# Altium integrated library CAP 0603.IntLib: 27 symbols
Pins are listed as number, name and electrical type; pins without a type are passive.

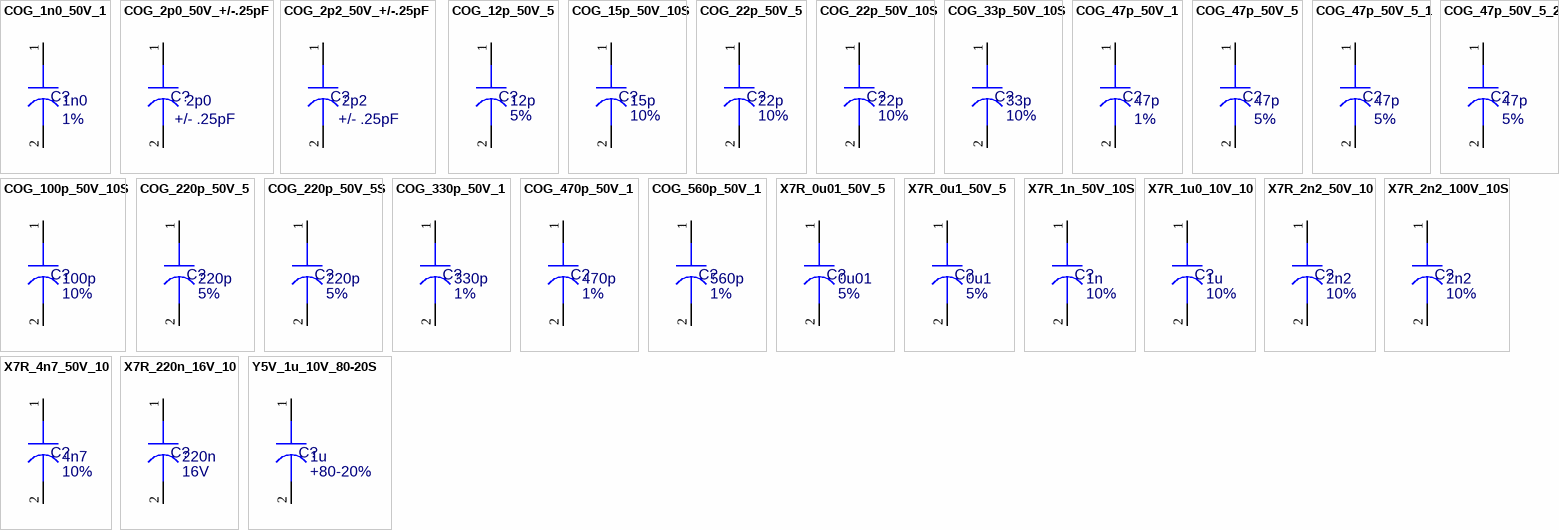
[diagram p0: symbols COG_1n0_50V_1 to Y5V_1u_10V_80-20S]

## COG_1n0_50V_1
designator C?, comment value 1n0  Tolerance: 1%  (hidden comment: 53632-1250)
Capacitor, 1nF 50V; ECAD_Revision: 1; Librarian: US; PartNumber: 53632-1250; HelpURL: *; Item: *; Voltage: 50V
signal-integrity model c0603
simulation model CAP (Capacitor)
footprint C0603
pins: 1, 2

## COG_2p0_50V_+/-.25pF
designator C?, comment value 2p0  Tolerance: +/- .25pF  (hidden comment: 53628-1090)
Capacitor, 2.0pF 50V; ECAD_Revision: 1; Librarian: US; PartNumber: 53628-1090; HelpURL: *; Item: *; Voltage: 50V
signal-integrity model c0603
simulation model CAP (Capacitor)
footprint C0603
pins: 1, 2

## COG_2p2_50V_+/-.25pF
designator C?, comment value 2p2  Tolerance: +/- .25pF  (hidden comment: 53628-1108)
Capacitor, 2.2pF 50V; ECAD_Revision: 1; Librarian: US; PartNumber: 53628-1108; HelpURL: *; Item: *; Voltage: 50V
signal-integrity model c0603
simulation model CAP (Capacitor)
footprint C0603
pins: 1, 2

## COG_12p_50V_5
designator C?, comment value 12p  Tolerance: 5%  (hidden comment: 53629-1024)
Capacitor, 12pF 50V; ECAD_Revision: 1; Librarian: US; PartNumber: 53629-1024; HelpURL: *; Item: *; Voltage: 50V
signal-integrity model c0603
simulation model CAP (Capacitor)
footprint C0603
pins: 1, 2

## COG_15p_50V_10S
designator C?, comment value 15p  Tolerance: 10%  (hidden comment: CXD15P00K050BC)
Capacitor, 15pF 50V; ECAD_Revision: 1; Librarian: UK; PartNumber: CXD15P00K050BC; HelpURL: *; Item: *; Voltage: 50V
signal-integrity model c0603
simulation model CAP (Capacitor)
footprint C0603
pins: 1, 2

## COG_22p_50V_5
designator C?, comment value 22p  Tolerance: 10%  (hidden comment: 53629-1057)
Capacitor, 22pF 50V; ECAD_Revision: 1; Librarian: US; PartNumber: 53629-1057; HelpURL: *; Item: *; Voltage: 50V
signal-integrity model c0603
simulation model CAP (Capacitor)
footprint C0603
pins: 1, 2

## COG_22p_50V_10S
designator C?, comment value 22p  Tolerance: 10%  (hidden comment: CXD22P00K050BC)
Capacitor, 22pF 50V; ECAD_Revision: 1; Librarian: UK; PartNumber: CXD22P00K050BC; HelpURL: *; Item: *; Voltage: 50V
signal-integrity model c0603
simulation model CAP (Capacitor)
footprint C0603
pins: 1, 2

## COG_33p_50V_10S
designator C?, comment value 33p  Tolerance: 10%  (hidden comment: CXD33P00K050BC)
Capacitor, 33pF 50V; ECAD_Revision: 1; Librarian: UK; PartNumber: CXD33P00K050BC; HelpURL: *; Item: *; Voltage: 50V
signal-integrity model c0603
simulation model CAP (Capacitor)
footprint C0603
pins: 1, 2

## COG_47p_50V_1
designator C?, comment value 47p  Tolerance: 1%  (hidden comment: 53632-1102)
Capacitor, 47pF 50V; ECAD_Revision: 1; Librarian: US; PartNumber: 53632-1102; HelpURL: *; Item: *; Voltage: 50V
signal-integrity model c0603
simulation model CAP (Capacitor)
footprint C0603
pins: 1, 2

## COG_47p_50V_5
designator C?, comment value 47p  Tolerance: 5%  (hidden comment: 53629-1099)
Capacitor, 47pF 50V; ECAD_Revision: 1; Librarian: US; PartNumber: 53629-1099; HelpURL: *; Item: *; Voltage: 50V
signal-integrity model c0603
simulation model CAP (Capacitor)
footprint C0603
pins: 1, 2

## COG_47p_50V_5_1
designator C?, comment value 47p  Tolerance: 5%  (hidden comment: CXD47P00J050BC)
Capacitor, 47pF 50V; ECAD_Revision: 1; Librarian: UK; PartNumber: CXD47P00J050BC; HelpURL: *; Item: *; Voltage: 50V
signal-integrity model c0603
simulation model CAP (Capacitor)
footprint C0603
pins: 1, 2

## COG_47p_50V_5_2
designator C?, comment value 47p  Tolerance: 5%  (hidden comment: CXD47P00J050BC)
Capacitor, 47pF 5% 50V; ECAD_Revision: 1; Librarian: UK; PartNumber: CXD47P00J050BC; HelpURL: *; Item: *; Voltage: 50V
signal-integrity model c0603
simulation model CAP (Capacitor)
footprint C0603
pins: 1, 2

## COG_100p_50V_10S
designator C?, comment value 100p  Tolerance: 10%  (hidden comment: CXD100P0K050BC)
Capacitor, 100pF 50V; ECAD_Revision: 1; Librarian: UK; PartNumber: CXD100P0K050BC; HelpURL: *; Item: *; Voltage: 50V
signal-integrity model c0603
simulation model CAP (Capacitor)
footprint C0603
pins: 1, 2

## COG_220p_50V_5
designator C?, comment value 220p  Tolerance: 5%  (hidden comment: 53629-1172)
Capacitor, 220pF 50V; ECAD_Revision: 1; Librarian: US; PartNumber: 53629-1172; HelpURL: *; Item: *; Voltage: 50V
signal-integrity model c0603
simulation model CAP (Capacitor)
footprint C0603
pins: 1, 2

## COG_220p_50V_5S
designator C?, comment value 220p  Tolerance: 5%  (hidden comment: CXD220P0J050BC)
Capacitor, 220pF 50V; ECAD_Revision: 1; Librarian: UK; PartNumber: CXD220P0J050BC; HelpURL: *; Item: *; Voltage: 50V
signal-integrity model c0603
simulation model CAP (Capacitor)
footprint C0603
pins: 1, 2

## COG_330p_50V_1
designator C?, comment value 330p  Tolerance: 1%  (hidden comment: 53632-1193)
Capacitor, 330pF 50V; ECAD_Revision: 1; Librarian: US; PartNumber: 53632-1193; HelpURL: *; Item: *; Voltage: 50V
signal-integrity model c0603
simulation model CAP (Capacitor)
footprint C0603
pins: 1, 2

## COG_470p_50V_1
designator C?, comment value 470p  Tolerance: 1%  (hidden comment: 53632-1219)
Capacitor, 470pF 50V; ECAD_Revision: 1; Librarian: US; PartNumber: 53632-1219; HelpURL: *; Item: *; Voltage: 50V
signal-integrity model c0603
simulation model CAP (Capacitor)
footprint C0603
pins: 1, 2

## COG_560p_50V_1
designator C?, comment value 560p  Tolerance: 1%  (hidden comment: 53632-1227)
Capacitor, 560pF 50V; ECAD_Revision: 1; Librarian: US; PartNumber: 53632-1227; HelpURL: *; Item: *; Voltage: 50V
signal-integrity model c0603
simulation model CAP (Capacitor)
footprint C0603
pins: 1, 2

## X7R_0u01_50V_5
designator C?, comment value 0u01  Tolerance: 5%  (hidden comment: 53630-1260)
Capacitor, 0.01uF 50V; ECAD_Revision: 1; Librarian: US; PartNumber: 53630-1260; HelpURL: *; Item: *; Voltage: 50V
signal-integrity model c0603
simulation model CAP (Capacitor)
footprint C0603
pins: 1, 2

## X7R_0u1_50V_5
designator C?, comment value 0u1  Tolerance: 5%  (hidden comment: 53630-1385)
Capacitor, 0.1uF 50V; ECAD_Revision: 1; Librarian: US; PartNumber: 53630-1385; HelpURL: *; Item: *; Voltage: 50V
signal-integrity model c0603
simulation model CAP (Capacitor)
footprint C0603
pins: 1, 2

## X7R_1n_50V_10S
designator C?, comment value 1n  Tolerance: 10%  (hidden comment: CXD1N000K050AR)
Capacitor, 1nF 50V; ECAD_Revision: 1; Librarian: UK; PartNumber: CXD1N000K050AR; HelpURL: *; Item: *; Voltage: 50V
signal-integrity model c0603
simulation model CAP (Capacitor)
footprint C0603
pins: 1, 2

## X7R_1u0_10V_10
designator C?, comment value 1u  Tolerance: 10%  (hidden comment: AWT25-500066)
Capacitor, 1uF 10V; ECAD_Revision: 1; Librarian: US; PartNumber: AWT25-500066; HelpURL: K:\ACCELEDA\PDF Spec Files\CAPS\ECJ Series.pdf; Item: *; Voltage: 10V
signal-integrity model c0603
simulation model CAP (Capacitor)
footprint C0603
pins: 1, 2

## X7R_2n2_50V_10
designator C?, comment value 2n2  Tolerance: 10%  (hidden comment: 60201-1173)
Capacitor, 2.2nF 50V; ECAD_Revision: 1; Librarian: US; PartNumber: 60201-1173; HelpURL: *; Item: *; Voltage: 50V
signal-integrity model c0603
simulation model CAP (Capacitor)
footprint C0603
pins: 1, 2

## X7R_2n2_100V_10S
designator C?, comment value 2n2  Tolerance: 10%  (hidden comment: CXD2N200K100AR)
Capacitor, 2.2nF 100V; ECAD_Revision: 1; Librarian: UK; PartNumber: CXD2N200K100AR; HelpURL: *; Item: *; Voltage: 100V
signal-integrity model c0603
simulation model CAP (Capacitor)
footprint C0603
pins: 1, 2

## X7R_4n7_50V_10
designator C?, comment value 4n7  Tolerance: 10%  (hidden comment: 60201-1215)
Capacitor, 4.7nF 50V; ECAD_Revision: 1; Librarian: US; PartNumber: 60201-1215; HelpURL: *; Item: *; Voltage: 50V
signal-integrity model c0603
simulation model CAP (Capacitor)
footprint C0603
pins: 1, 2

## X7R_220n_16V_10
designator C?, comment value 220n  Voltage: 16V  (hidden comment: CXD220N0K016AR)
Capacitor, 220nF 10% 16V X7R; ECAD_Revision: 1; Librarian: UK; PartNumber: CXD220N0K016AR; HelpURL: *; Item: *; Tolerance: 10%
signal-integrity model c0603
simulation model CAP (Capacitor)
footprint C0603
pins: 1, 2

## Y5V_1u_10V_80-20S
designator C?, comment value 1u  Tolerance: +80-20%  (hidden comment: CXD1U000S010AX)
Capacitor, 1uF 10V +80-20%; ECAD_Revision: 1; Librarian: UK; PartNumber: CXD1U000S010AX; HelpURL: *; Item: *; Voltage: 10V
signal-integrity model c0603
simulation model CAP (Capacitor)
footprint C0603
pins: 1, 2